# Altium schematic symbol library WR-WTB.SchLib: 242 symbols (part 3 of 5)
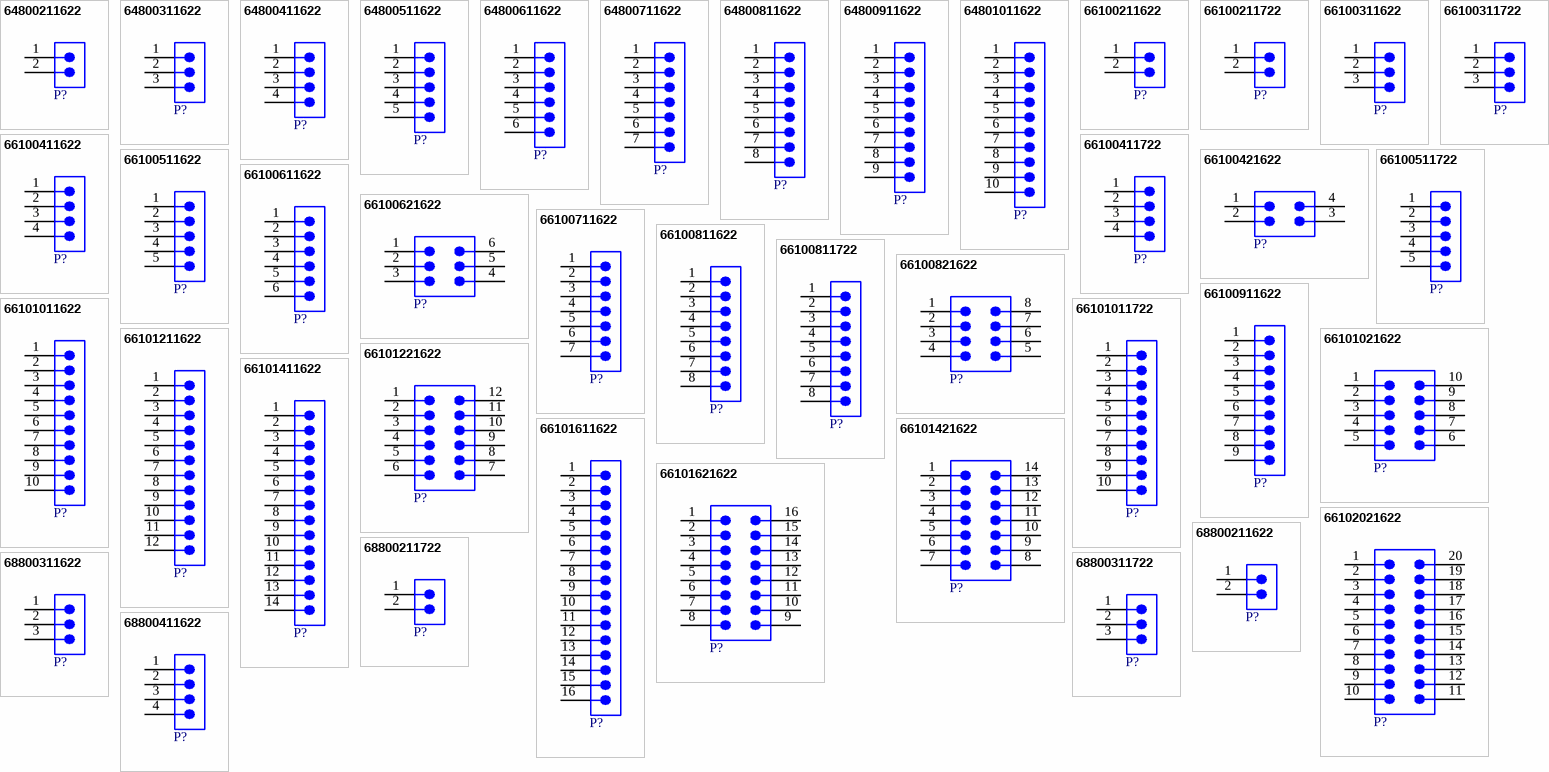
[diagram p8: symbols 64800211622 to 68800411622]

## 66101421622
designator P?  (value not drawn)
WR-WTB THT Male Vertical Shrouded Header, pitch 2.54mm, 14pins; Manufacturer: Wurth Elektronik; Contact Resistance: 20mΩ; Rated Current: 3A; Working Voltage: 50VAC; Withstanding Voltage: 500VAC; Manufacturer Part Number: 66101421622; Category: Wire-to-Board Connectors; Match Code: WR-WTB; ComponentLink1Description: Website Link; ComponentLink1URL: https://www.we-online.com/redexpert/article/66101421622?ad; ComponentLink2Description: Datasheet Link; ComponentLink2URL: https://www.we-online.com/redexpert/spec/66101421622?ad; Mount: Through Hole; Operating Temperature Max: 125°C; Operating Temperature Min: -40°C; Packaging: Carton; Width: 7.6mm; Height: 11.2mm; Gender: Male; Number of Pins: 14; Number of Rows: 2; Orientation: Vertical; Pitch: 2.54mm
footprint 66101421622
pins: 1, 2, 3, 4, 5, 6, 7, 8, 9, 10, 11, 12, 13, 14

## 66101611622
designator P?  (value not drawn)
WR-WTB Male Vertical Shrouded Header, pitch 2.54mm, 16pins; Manufacturer: Wurth Elektronik; Contact Resistance: 20mΩ; Rated Current: 3A; Working Voltage: 50VAC; Withstanding Voltage: 500VAC; Manufacturer Part Number: 66101611622; Category: Wire-to-Board Connectors; Match Code: WR-WTB; ComponentLink1Description: Website Link; ComponentLink1URL: https://www.we-online.com/redexpert/article/66101611622?ad; ComponentLink2Description: Datasheet Link; ComponentLink2URL: https://www.we-online.com/redexpert/spec/66101611622?ad; Mount: Through Hole; Operating Temperature Max: 125°C; Operating Temperature Min: -40°C; Packaging: Box; Width: 5mm; Height: 11.3mm; Gender: Male; Number of Pins: 16; Number of Rows: 1; Orientation: Vertical; Pitch: 2.54mm
footprint 66101611622
pins: 1, 2, 3, 4, 5, 6, 7, 8, 9, 10, 11, 12, 13, 14, 15, 16

## 66101621622
designator P?  (value not drawn)
WR-WTB THT Male Vertical Shrouded Header, pitch 2.54mm, 16pins; Manufacturer: Wurth Elektronik; Contact Resistance: 20mΩ; Rated Current: 3A; Working Voltage: 50VAC; Withstanding Voltage: 500VAC; Manufacturer Part Number: 66101621622; Category: Wire-to-Board Connectors; Match Code: WR-WTB; ComponentLink1Description: Website Link; ComponentLink1URL: https://www.we-online.com/redexpert/article/66101621622?ad; ComponentLink2Description: Datasheet Link; ComponentLink2URL: https://www.we-online.com/redexpert/spec/66101621622?ad; Mount: Through Hole; Operating Temperature Max: 125°C; Operating Temperature Min: -40°C; Packaging: Carton; Width: 7.6mm; Height: 11.2mm; Gender: Male; Number of Pins: 16; Number of Rows: 2; Orientation: Vertical; Pitch: 2.54mm
footprint 66101621622
pins: 1, 2, 3, 4, 5, 6, 7, 8, 9, 10, 11, 12, 13, 14, 15, 16

## 66102021622
designator P?  (value not drawn)
WR-WTB THT Male Vertical Shrouded Header, pitch 2.54mm, 20pins; Manufacturer: Wurth Elektronik; Contact Resistance: 20mΩ; Rated Current: 3A; Working Voltage: 50VAC; Withstanding Voltage: 500VAC; Manufacturer Part Number: 66102021622; Category: Wire-to-Board Connectors; Match Code: WR-WTB; ComponentLink1Description: Website Link; ComponentLink1URL: https://www.we-online.com/redexpert/article/66102021622?ad; ComponentLink2Description: Datasheet Link; ComponentLink2URL: https://www.we-online.com/redexpert/spec/66102021622?ad; Mount: Through Hole; Operating Temperature Max: 125°C; Operating Temperature Min: -40°C; Packaging: Carton; Width: 7.6mm; Height: 11.2mm; Gender: Male; Number of Pins: 20; Number of Rows: 2; Orientation: Vertical; Pitch: 2.54mm
footprint 66102021622
pins: 1, 2, 3, 4, 5, 6, 7, 8, 9, 10, 11, 12, 13, 14, 15, 16, 17, 18, 19, 20

## 68800211622
designator P?  (value not drawn)
WR-WTB “J” Type THT Vertical Male Shrouded Header, pitch 2.5mm, 2pins; Manufacturer: Wurth Elektronik; Contact Resistance: 20mΩ; Rated Current: 3A; Working Voltage: 250VAC; Withstanding Voltage: 800VAC; ComponentLink1Description: Website Link; ComponentLink1URL: https://www.we-online.com/redexpert/article/68800211622?ad; ComponentLink2Description: Datasheet Link; ComponentLink2URL: https://www.we-online.com/redexpert/spec/68800211622?ad; Manufacturer Part Number: 68800211622; Category: Wire-to-Board Connectors; Match Code: WR-WTB; Mount: Through Hole; Operating Temperature Max: 85°C; Operating Temperature Min: -25°C; Packaging: Bag; Length: 7.5mm; Width: 3.8mm; Height: 6mm; Gender: Male; Number of Pins: 2; Number of Rows: 1; Orientation: Vertical; Pitch: 2.5mm
footprint 68800211622
pins: 1, 2

## 68800211722
designator P?  (value not drawn)
WR-WTB “J” Type THT Male Horizontal Shrouded Header, pitch 2.5mm, 2pins; Manufacturer: Wurth Elektronik; Contact Resistance: 20mΩ; Rated Current: 3A; Working Voltage: 250VAC; Withstanding Voltage: 800VAC; ComponentLink1Description: Website Link; ComponentLink1URL: https://www.we-online.com/redexpert/article/68800211722?ad; ComponentLink2Description: Datasheet Link; ComponentLink2URL: https://www.we-online.com/redexpert/spec/68800211722?ad; Manufacturer Part Number: 68800211722; Category: Wire-to-Board Connectors; Match Code: WR-WTB; Mount: Through Hole; Operating Temperature Max: 85°C; Operating Temperature Min: -25°C; Packaging: Bag; Length: 7.5mm; Width: 8.3mm; Height: 4.2mm; Gender: Male; Number of Pins: 2; Number of Rows: 1; Orientation: Horizontal; Pitch: 2.5mm
footprint 68800211722
pins: 1, 2

## 68800311622
designator P?  (value not drawn)
WR-WTB “J” Type THT Vertical Male Shrouded Header, pitch 2.5mm, 3pins; Manufacturer: Wurth Elektronik; Contact Resistance: 20mΩ; Rated Current: 3A; Working Voltage: 250VAC; Withstanding Voltage: 800VAC; ComponentLink1Description: Website Link; ComponentLink1URL: https://www.we-online.com/redexpert/article/68800311622?ad; ComponentLink2Description: Datasheet Link; ComponentLink2URL: https://www.we-online.com/redexpert/spec/68800311622?ad; Manufacturer Part Number: 68800311622; Category: Wire-to-Board Connectors; Match Code: WR-WTB; Mount: Through Hole; Operating Temperature Max: 85°C; Operating Temperature Min: -25°C; Packaging: Bag; Length: 10mm; Width: 3.8mm; Height: 6mm; Gender: Male; Number of Pins: 3; Number of Rows: 1; Orientation: Vertical; Pitch: 2.5mm
footprint 68800311622
pins: 1, 2, 3

## 68800311722
designator P?  (value not drawn)
WR-WTB “J” Type THT Male Horizontal Shrouded Header, pitch 2.5mm, 3pins; Manufacturer: Wurth Elektronik; Contact Resistance: 20mΩ; Rated Current: 3A; Working Voltage: 250VAC; Withstanding Voltage: 800VAC; ComponentLink1Description: Website Link; ComponentLink1URL: https://www.we-online.com/redexpert/article/68800311722?ad; ComponentLink2Description: Datasheet Link; ComponentLink2URL: https://www.we-online.com/redexpert/spec/68800311722?ad; Manufacturer Part Number: 68800311722; Category: Wire-to-Board Connectors; Match Code: WR-WTB; Mount: Through Hole; Operating Temperature Max: 85°C; Operating Temperature Min: -25°C; Packaging: Bag; Length: 10mm; Width: 8.3mm; Height: 4.2mm; Gender: Male; Number of Pins: 3; Number of Rows: 1; Orientation: Horizontal; Pitch: 2.5mm
footprint 68800311722
pins: 1, 2, 3

## 68800411622
designator P?  (value not drawn)
WR-WTB “J” Type THT Vertical Male Shrouded Header, pitch 2.5mm, 4pins; Manufacturer: Wurth Elektronik; Contact Resistance: 20mΩ; Rated Current: 3A; Working Voltage: 250VAC; Withstanding Voltage: 800VAC; ComponentLink1Description: Website Link; ComponentLink1URL: https://www.we-online.com/redexpert/article/68800411622?ad; ComponentLink2Description: Datasheet Link; ComponentLink2URL: https://www.we-online.com/redexpert/spec/68800411622?ad; Manufacturer Part Number: 68800411622; Category: Wire-to-Board Connectors; Match Code: WR-WTB; Mount: Through Hole; Operating Temperature Max: 85°C; Operating Temperature Min: -25°C; Packaging: Bag; Length: 12.5mm; Width: 3.8mm; Height: 6mm; Gender: Male; Number of Pins: 4; Number of Rows: 1; Orientation: Vertical; Pitch: 2.5mm
footprint 68800411622
pins: 1, 2, 3, 4

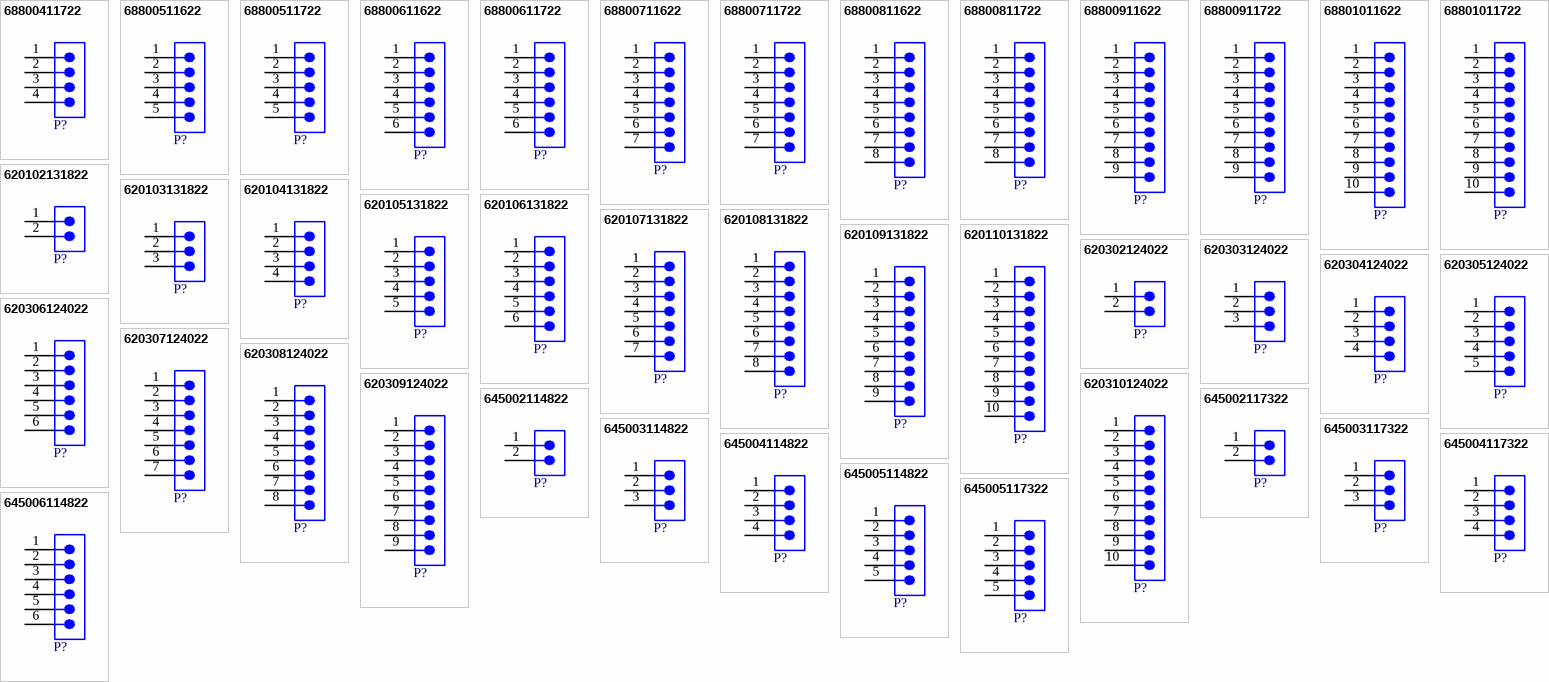
[diagram p3: symbols 68800411722 to 645006114822]

## 68800411722
designator P?  (value not drawn)
WR-WTB “J” Type THT Male Horizontal Shrouded Header, pitch 2.5mm, 4pins; Manufacturer: Wurth Elektronik; Contact Resistance: 20mΩ; Rated Current: 3A; Working Voltage: 250VAC; Withstanding Voltage: 800VAC; ComponentLink1Description: Website Link; ComponentLink1URL: https://www.we-online.com/redexpert/article/68800411722?ad; ComponentLink2Description: Datasheet Link; ComponentLink2URL: https://www.we-online.com/redexpert/spec/68800411722?ad; Manufacturer Part Number: 68800411722; Category: Wire-to-Board Connectors; Match Code: WR-WTB; Mount: Through Hole; Operating Temperature Max: 85°C; Operating Temperature Min: -25°C; Packaging: Bag; Length: 12.5mm; Width: 8.3mm; Height: 4.2mm; Gender: Male; Number of Pins: 4; Number of Rows: 1; Orientation: Horizontal; Pitch: 2.5mm
footprint 68800411722
pins: 1, 2, 3, 4

## 68800511622
designator P?  (value not drawn)
WR-WTB “J” Type THT Vertical Male Shrouded Header, pitch 2.5mm, 5pins; Manufacturer: Wurth Elektronik; Contact Resistance: 20mΩ; Rated Current: 3A; Working Voltage: 250VAC; Withstanding Voltage: 800VAC; ComponentLink1Description: Website Link; ComponentLink1URL: https://www.we-online.com/redexpert/article/68800511622?ad; ComponentLink2Description: Datasheet Link; ComponentLink2URL: https://www.we-online.com/redexpert/spec/68800511622?ad; Manufacturer Part Number: 68800511622; Category: Wire-to-Board Connectors; Match Code: WR-WTB; Mount: Through Hole; Operating Temperature Max: 85°C; Operating Temperature Min: -25°C; Packaging: Bag; Length: 15mm; Width: 3.8mm; Height: 6mm; Gender: Male; Number of Pins: 5; Number of Rows: 1; Orientation: Vertical; Pitch: 2.5mm
footprint 68800511622
pins: 1, 2, 3, 4, 5

## 68800511722
designator P?  (value not drawn)
WR-WTB “J” Type THT Male Horizontal Shrouded Header, pitch 2.5mm, 5pins; Manufacturer: Wurth Elektronik; Contact Resistance: 20mΩ; Rated Current: 3A; Working Voltage: 250VAC; Withstanding Voltage: 800VAC; ComponentLink1Description: Website Link; ComponentLink1URL: https://www.we-online.com/redexpert/article/68800511722?ad; ComponentLink2Description: Datasheet Link; ComponentLink2URL: https://www.we-online.com/redexpert/spec/68800511722?ad; Manufacturer Part Number: 68800511722; Category: Wire-to-Board Connectors; Match Code: WR-WTB; Mount: Through Hole; Operating Temperature Max: 85°C; Operating Temperature Min: -25°C; Packaging: Bag; Length: 15mm; Width: 8.3mm; Height: 4.2mm; Gender: Male; Number of Pins: 5; Number of Rows: 1; Orientation: Horizontal; Pitch: 2.5mm
footprint 68800511722
pins: 1, 2, 3, 4, 5

## 68800611622
designator P?  (value not drawn)
WR-WTB “J” Type THT Vertical Male Shrouded Header, pitch 2.5mm, 6pins; Manufacturer: Wurth Elektronik; Contact Resistance: 20mΩ; Rated Current: 3A; Working Voltage: 250VAC; Withstanding Voltage: 800VAC; ComponentLink1Description: Website Link; ComponentLink1URL: https://www.we-online.com/redexpert/article/68800611622?ad; ComponentLink2Description: Datasheet Link; ComponentLink2URL: https://www.we-online.com/redexpert/spec/68800611622?ad; Manufacturer Part Number: 68800611622; Category: Wire-to-Board Connectors; Match Code: WR-WTB; Mount: Through Hole; Operating Temperature Max: 85°C; Operating Temperature Min: -25°C; Packaging: Bag; Length: 17.5mm; Width: 3.8mm; Height: 6mm; Gender: Male; Number of Pins: 6; Number of Rows: 1; Orientation: Vertical; Pitch: 2.5mm
footprint 68800611622
pins: 1, 2, 3, 4, 5, 6

## 68800611722
designator P?  (value not drawn)
WR-WTB “J” Type THT Male Horizontal Shrouded Header, pitch 2.5mm, 6pins; Manufacturer: Wurth Elektronik; Contact Resistance: 20mΩ; Rated Current: 3A; Working Voltage: 250VAC; Withstanding Voltage: 800VAC; ComponentLink1Description: Website Link; ComponentLink1URL: https://www.we-online.com/redexpert/article/68800611722?ad; ComponentLink2Description: Datasheet Link; ComponentLink2URL: https://www.we-online.com/redexpert/spec/68800611722?ad; Manufacturer Part Number: 68800611722; Category: Wire-to-Board Connectors; Match Code: WR-WTB; Mount: Through Hole; Operating Temperature Max: 85°C; Operating Temperature Min: -25°C; Packaging: Bag; Length: 17.5mm; Width: 8.3mm; Height: 4.2mm; Gender: Male; Number of Pins: 6; Number of Rows: 1; Orientation: Horizontal; Pitch: 2.5mm
footprint 68800611722
pins: 1, 2, 3, 4, 5, 6

## 68800711622
designator P?  (value not drawn)
WR-WTB “J” Type THT Vertical Male Shrouded Header, pitch 2.5mm, 7pins; Manufacturer: Wurth Elektronik; Contact Resistance: 20mΩ; Rated Current: 3A; Working Voltage: 250VAC; Withstanding Voltage: 800VAC; ComponentLink1Description: Website Link; ComponentLink1URL: https://www.we-online.com/redexpert/article/68800711622?ad; ComponentLink2Description: Datasheet Link; ComponentLink2URL: https://www.we-online.com/redexpert/spec/68800711622?ad; Manufacturer Part Number: 68800711622; Category: Wire-to-Board Connectors; Match Code: WR-WTB; Mount: Through Hole; Operating Temperature Max: 85°C; Operating Temperature Min: -25°C; Packaging: Bag; Length: 20mm; Width: 3.8mm; Height: 6mm; Gender: Male; Number of Pins: 7; Number of Rows: 1; Orientation: Vertical; Pitch: 2.5mm
footprint 68800711622
pins: 1, 2, 3, 4, 5, 6, 7

## 68800711722
designator P?  (value not drawn)
WR-WTB “J” Type THT Male Horizontal Shrouded Header, pitch 2.5mm, 7pins; Manufacturer: Wurth Elektronik; Contact Resistance: 20mΩ; Rated Current: 3A; Working Voltage: 250VAC; Withstanding Voltage: 800VAC; ComponentLink1Description: Website Link; ComponentLink1URL: https://www.we-online.com/redexpert/article/68800711722?ad; ComponentLink2Description: Datasheet Link; ComponentLink2URL: https://www.we-online.com/redexpert/spec/68800711722?ad; Manufacturer Part Number: 68800711722; Category: Wire-to-Board Connectors; Match Code: WR-WTB; Mount: Through Hole; Operating Temperature Max: 85°C; Operating Temperature Min: -25°C; Packaging: Bag; Length: 20mm; Width: 8.3mm; Height: 4.2mm; Gender: Male; Number of Pins: 7; Number of Rows: 1; Orientation: Horizontal; Pitch: 2.5mm
footprint 68800711722
pins: 1, 2, 3, 4, 5, 6, 7

## 68800811622
designator P?  (value not drawn)
WR-WTB “J” Type THT Vertical Male Shrouded Header, pitch 2.5mm, 8pins; Manufacturer: Wurth Elektronik; Contact Resistance: 20mΩ; Rated Current: 3A; Working Voltage: 250VAC; Withstanding Voltage: 800VAC; ComponentLink1Description: Website Link; ComponentLink1URL: https://www.we-online.com/redexpert/article/68800811622?ad; ComponentLink2Description: Datasheet Link; ComponentLink2URL: https://www.we-online.com/redexpert/spec/68800811622?ad; Manufacturer Part Number: 68800811622; Category: Wire-to-Board Connectors; Match Code: WR-WTB; Mount: Through Hole; Operating Temperature Max: 85°C; Operating Temperature Min: -25°C; Packaging: Bag; Length: 22.5mm; Width: 3.8mm; Height: 6mm; Gender: Male; Number of Pins: 8; Number of Rows: 1; Orientation: Vertical; Pitch: 2.5mm
footprint 68800811622
pins: 1, 2, 3, 4, 5, 6, 7, 8

## 68800811722
designator P?  (value not drawn)
WR-WTB “J” Type THT Male Horizontal Shrouded Header, pitch 2.5mm, 8pins; Manufacturer: Wurth Elektronik; Contact Resistance: 20mΩ; Rated Current: 3A; Working Voltage: 250VAC; Withstanding Voltage: 800VAC; ComponentLink1Description: Website Link; ComponentLink1URL: https://www.we-online.com/redexpert/article/68800811722?ad; ComponentLink2Description: Datasheet Link; ComponentLink2URL: https://www.we-online.com/redexpert/spec/68800811722?ad; Manufacturer Part Number: 68800811722; Category: Wire-to-Board Connectors; Match Code: WR-WTB; Mount: Through Hole; Operating Temperature Max: 85°C; Operating Temperature Min: -25°C; Packaging: Bag; Length: 22.5mm; Width: 8.3mm; Height: 4.2mm; Gender: Male; Number of Pins: 8; Number of Rows: 1; Orientation: Horizontal; Pitch: 2.5mm
footprint 68800811722
pins: 1, 2, 3, 4, 5, 6, 7, 8

## 68800911622
designator P?  (value not drawn)
WR-WTB “J” Type THT Vertical Male Shrouded Header, pitch 2.5mm, 9pins; Manufacturer: Wurth Elektronik; Contact Resistance: 20mΩ; Rated Current: 3A; Working Voltage: 250VAC; Withstanding Voltage: 800VAC; ComponentLink1Description: Website Link; ComponentLink1URL: https://www.we-online.com/redexpert/article/68800911622?ad; ComponentLink2Description: Datasheet Link; ComponentLink2URL: https://www.we-online.com/redexpert/spec/68800911622?ad; Manufacturer Part Number: 68800911622; Category: Wire-to-Board Connectors; Match Code: WR-WTB; Mount: Through Hole; Operating Temperature Max: 85°C; Operating Temperature Min: -25°C; Packaging: Bag; Length: 25mm; Width: 3.8mm; Height: 6mm; Gender: Male; Number of Pins: 9; Number of Rows: 1; Orientation: Vertical; Pitch: 2.5mm
footprint 68800911622
pins: 1, 2, 3, 4, 5, 6, 7, 8, 9

## 68800911722
designator P?  (value not drawn)
WR-WTB “J” Type THT Male Horizontal Shrouded Header, pitch 2.5mm, 9pins; Manufacturer: Wurth Elektronik; Contact Resistance: 20mΩ; Rated Current: 3A; Working Voltage: 250VAC; Withstanding Voltage: 800VAC; ComponentLink1Description: Website Link; ComponentLink1URL: https://www.we-online.com/redexpert/article/68800911722?ad; ComponentLink2Description: Datasheet Link; ComponentLink2URL: https://www.we-online.com/redexpert/spec/68800911722?ad; Manufacturer Part Number: 68800911722; Category: Wire-to-Board Connectors; Match Code: WR-WTB; Mount: Through Hole; Operating Temperature Max: 85°C; Operating Temperature Min: -25°C; Packaging: Bag; Length: 25mm; Width: 8.3mm; Height: 4.2mm; Gender: Male; Number of Pins: 9; Number of Rows: 1; Orientation: Horizontal; Pitch: 2.5mm
footprint 68800911722
pins: 1, 2, 3, 4, 5, 6, 7, 8, 9

## 68801011622
designator P?  (value not drawn)
WR-WTB “J” Type THT Vertical Male Shrouded Header, pitch 2.5mm, 10pins; Manufacturer: Wurth Elektronik; Contact Resistance: 20mΩ; Rated Current: 3A; Working Voltage: 250VAC; Withstanding Voltage: 800VAC; ComponentLink1Description: Website Link; ComponentLink1URL: https://www.we-online.com/redexpert/article/68801011622?ad; ComponentLink2Description: Datasheet Link; ComponentLink2URL: https://www.we-online.com/redexpert/spec/68801011622?ad; Manufacturer Part Number: 68801011622; Category: Wire-to-Board Connectors; Match Code: WR-WTB; Mount: Through Hole; Operating Temperature Max: 85°C; Operating Temperature Min: -25°C; Packaging: Bag; Length: 27.5mm; Width: 3.8mm; Height: 6mm; Gender: Male; Number of Pins: 10; Number of Rows: 1; Orientation: Vertical; Pitch: 2.5mm
footprint 68801011622
pins: 1, 2, 3, 4, 5, 6, 7, 8, 9, 10

## 68801011722
designator P?  (value not drawn)
WR-WTB “J” Type THT Male Horizontal Shrouded Header, pitch 2.5mm, 10pins; Manufacturer: Wurth Elektronik; Contact Resistance: 20mΩ; Rated Current: 3A; Working Voltage: 250VAC; Withstanding Voltage: 800VAC; ComponentLink1Description: Website Link; ComponentLink1URL: https://www.we-online.com/redexpert/article/68801011722?ad; ComponentLink2Description: Datasheet Link; ComponentLink2URL: https://www.we-online.com/redexpert/spec/68801011722?ad; Manufacturer Part Number: 68801011722; Category: Wire-to-Board Connectors; Match Code: WR-WTB; Mount: Through Hole; Operating Temperature Max: 85°C; Operating Temperature Min: -25°C; Packaging: Bag; Length: 27.5mm; Width: 8.3mm; Height: 4.2mm; Gender: Male; Number of Pins: 10; Number of Rows: 1; Orientation: Horizontal; Pitch: 2.5mm
footprint 68801011722
pins: 1, 2, 3, 4, 5, 6, 7, 8, 9, 10

## 620102131822
designator P?  (value not drawn)
WR-WTB SMT Male Horizontal Shrouded Header, pitch 2mm, 2pins; Manufacturer: Wurth Elektronik; Contact Resistance: 20mΩ; Rated Current: 2A; Working Voltage: 100VAC; Withstanding Voltage: 800VAC; ComponentLink1Description: Website Link; ComponentLink1URL: https://www.we-online.com/redexpert/article/620102131822?ad; ComponentLink2Description: Datasheet Link; ComponentLink2URL: https://www.we-online.com/redexpert/spec/620102131822?ad; Manufacturer Part Number: 620102131822; Category: Wire-to-Board Connectors; Match Code: WR-WTB; Mount: Surface Mount; Operating Temperature Max: 85°C; Operating Temperature Min: -25°C; Packaging: Tape and Reel; Length: 8mm; Width: 8.6mm; Height: 5.5mm; Gender: Male; Number of Pins: 2; Number of Rows: 1; Orientation: Horizontal; Pitch: 2mm
footprint 620102131822
pins: 1, 2

## 620103131822
designator P?  (value not drawn)
WR-WTB SMT Male Horizontal Shrouded Header, pitch 2mm, 3pins; Manufacturer: Wurth Elektronik; Contact Resistance: 20mΩ; Rated Current: 2A; Working Voltage: 100VAC; Withstanding Voltage: 800VAC; ComponentLink1Description: Website Link; ComponentLink1URL: https://www.we-online.com/redexpert/article/620103131822?ad; ComponentLink2Description: Datasheet Link; ComponentLink2URL: https://www.we-online.com/redexpert/spec/620103131822?ad; Manufacturer Part Number: 620103131822; Category: Wire-to-Board Connectors; Match Code: WR-WTB; Mount: Surface Mount; Operating Temperature Max: 85°C; Operating Temperature Min: -25°C; Packaging: Tape and Reel; Length: 10mm; Width: 8.6mm; Height: 5.5mm; Gender: Male; Number of Pins: 3; Number of Rows: 1; Orientation: Horizontal; Pitch: 2mm
footprint 620103131822
pins: 1, 2, 3

## 620104131822
designator P?  (value not drawn)
WR-WTB SMT Male Horizontal Shrouded Header, pitch 2mm, 4pins; Manufacturer: Wurth Elektronik; Contact Resistance: 20mΩ; Rated Current: 2A; Working Voltage: 100VAC; Withstanding Voltage: 800VAC; ComponentLink1Description: Website Link; ComponentLink1URL: https://www.we-online.com/redexpert/article/620104131822?ad; ComponentLink2Description: Datasheet Link; ComponentLink2URL: https://www.we-online.com/redexpert/spec/620104131822?ad; Manufacturer Part Number: 620104131822; Category: Wire-to-Board Connectors; Match Code: WR-WTB; Mount: Surface Mount; Operating Temperature Max: 85°C; Operating Temperature Min: -25°C; Packaging: Tape and Reel; Length: 12mm; Width: 8.6mm; Height: 5.5mm; Gender: Male; Number of Pins: 4; Number of Rows: 1; Orientation: Horizontal; Pitch: 2mm
footprint 620104131822
pins: 1, 2, 3, 4

## 620105131822
designator P?  (value not drawn)
WR-WTB SMT Male Horizontal Shrouded Header, pitch 2mm, 5pins; Manufacturer: Wurth Elektronik; Contact Resistance: 20mΩ; Rated Current: 2A; Working Voltage: 100VAC; Withstanding Voltage: 800VAC; ComponentLink1Description: Website Link; ComponentLink1URL: https://www.we-online.com/redexpert/article/620105131822?ad; ComponentLink2Description: Datasheet Link; ComponentLink2URL: https://www.we-online.com/redexpert/spec/620105131822?ad; Manufacturer Part Number: 620105131822; Category: Wire-to-Board Connectors; Match Code: WR-WTB; Mount: Surface Mount; Operating Temperature Max: 85°C; Operating Temperature Min: -25°C; Packaging: Tape and Reel; Length: 14mm; Width: 8.6mm; Height: 5.5mm; Gender: Male; Number of Pins: 5; Number of Rows: 1; Orientation: Horizontal; Pitch: 2mm
footprint 620105131822
pins: 1, 2, 3, 4, 5

## 620106131822
designator P?  (value not drawn)
WR-WTB SMT Male Horizontal Shrouded Header, pitch 2mm, 6pins; Manufacturer: Wurth Elektronik; Contact Resistance: 20mΩ; Rated Current: 2A; Working Voltage: 100VAC; Withstanding Voltage: 800VAC; ComponentLink1Description: Website Link; ComponentLink1URL: https://www.we-online.com/redexpert/article/620106131822?ad; ComponentLink2Description: Datasheet Link; ComponentLink2URL: https://www.we-online.com/redexpert/spec/620106131822?ad; Manufacturer Part Number: 620106131822; Category: Wire-to-Board Connectors; Match Code: WR-WTB; Mount: Surface Mount; Operating Temperature Max: 85°C; Operating Temperature Min: -25°C; Packaging: Tape and Reel; Length: 16mm; Width: 8.6mm; Height: 5.5mm; Gender: Male; Number of Pins: 6; Number of Rows: 1; Orientation: Horizontal; Pitch: 2mm
footprint 620106131822
pins: 1, 2, 3, 4, 5, 6

## 620107131822
designator P?  (value not drawn)
WR-WTB SMT Male Horizontal Shrouded Header, pitch 2mm, 7pins; Manufacturer: Wurth Elektronik; Contact Resistance: 20mΩ; Rated Current: 2A; Working Voltage: 100VAC; Withstanding Voltage: 800VAC; ComponentLink1Description: Website Link; ComponentLink1URL: https://www.we-online.com/redexpert/article/620107131822?ad; ComponentLink2Description: Datasheet Link; ComponentLink2URL: https://www.we-online.com/redexpert/spec/620107131822?ad; Manufacturer Part Number: 620107131822; Category: Wire-to-Board Connectors; Match Code: WR-WTB; Mount: Surface Mount; Operating Temperature Max: 85°C; Operating Temperature Min: -25°C; Packaging: Tape and Reel; Length: 18mm; Width: 8.6mm; Height: 5.5mm; Gender: Male; Number of Pins: 7; Number of Rows: 1; Orientation: Horizontal; Pitch: 2mm
footprint 620107131822
pins: 1, 2, 3, 4, 5, 6, 7

## 620108131822
designator P?  (value not drawn)
WR-WTB SMT Male Horizontal Shrouded Header, pitch 2mm, 8pins; Manufacturer: Wurth Elektronik; Contact Resistance: 20mΩ; Rated Current: 2A; Working Voltage: 100VAC; Withstanding Voltage: 800VAC; ComponentLink1Description: Website Link; ComponentLink1URL: https://www.we-online.com/redexpert/article/620108131822?ad; ComponentLink2Description: Datasheet Link; ComponentLink2URL: https://www.we-online.com/redexpert/spec/620108131822?ad; Manufacturer Part Number: 620108131822; Category: Wire-to-Board Connectors; Match Code: WR-WTB; Mount: Surface Mount; Operating Temperature Max: 85°C; Operating Temperature Min: -25°C; Packaging: Tape and Reel; Length: 20mm; Width: 8.6mm; Height: 5.5mm; Gender: Male; Number of Pins: 8; Number of Rows: 1; Orientation: Horizontal; Pitch: 2mm
footprint 620108131822
pins: 1, 2, 3, 4, 5, 6, 7, 8

## 620109131822
designator P?  (value not drawn)
WR-WTB SMT Male Horizontal Shrouded Header, pitch 2mm, 9pins; Manufacturer: Wurth Elektronik; Contact Resistance: 20mΩ; Rated Current: 2A; Working Voltage: 100VAC; Withstanding Voltage: 800VAC; ComponentLink1Description: Website Link; ComponentLink1URL: https://www.we-online.com/redexpert/article/620109131822?ad; ComponentLink2Description: Datasheet Link; ComponentLink2URL: https://www.we-online.com/redexpert/spec/620109131822?ad; Manufacturer Part Number: 620109131822; Category: Wire-to-Board Connectors; Match Code: WR-WTB; Mount: Surface Mount; Operating Temperature Max: 85°C; Operating Temperature Min: -25°C; Packaging: Tape and Reel; Length: 22mm; Width: 8.6mm; Height: 5.5mm; Gender: Male; Number of Pins: 9; Number of Rows: 1; Orientation: Horizontal; Pitch: 2mm
footprint 620109131822
pins: 1, 2, 3, 4, 5, 6, 7, 8, 9

## 620110131822
designator P?  (value not drawn)
WR-WTB SMT Male Horizontal Shrouded Header, pitch 2mm, 10pins; Manufacturer: Wurth Elektronik; Contact Resistance: 20mΩ; Rated Current: 2A; Working Voltage: 100VAC; Withstanding Voltage: 800VAC; ComponentLink1Description: Website Link; ComponentLink1URL: https://www.we-online.com/redexpert/article/620110131822?ad; ComponentLink2Description: Datasheet Link; ComponentLink2URL: https://www.we-online.com/redexpert/spec/620110131822?ad; Manufacturer Part Number: 620110131822; Category: Wire-to-Board Connectors; Match Code: WR-WTB; Mount: Surface Mount; Operating Temperature Max: 85°C; Operating Temperature Min: -25°C; Packaging: Tape and Reel; Length: 24mm; Width: 8.6mm; Height: 5.5mm; Gender: Male; Number of Pins: 10; Number of Rows: 1; Orientation: Horizontal; Pitch: 2mm
footprint 620110131822
pins: 1, 2, 3, 4, 5, 6, 7, 8, 9, 10

## 620302124022
designator P?  (value not drawn)
WR-WTB SMT Male Vertical Shrouded Header, pitch 2mm, 2pins; Manufacturer: Wurth Elektronik; Contact Resistance: 20mΩ; Rated Current: 2A; Working Voltage: 100VAC; Withstanding Voltage: 800VAC; ComponentLink1Description: Website Link; ComponentLink1URL: https://www.we-online.com/redexpert/article/620302124022?ad; ComponentLink2Description: Datasheet Link; ComponentLink2URL: https://www.we-online.com/redexpert/spec/620302124022?ad; Manufacturer Part Number: 620302124022; Category: Wire-to-Board Connectors; Match Code: WR-WTB; Mount: Surface Mount; Operating Temperature Max: 85°C; Operating Temperature Min: -25°C; Packaging: Tape and Reel; Length: 8mm; Width: 7mm; Height: 6.68mm; Gender: Male; Number of Pins: 2; Number of Rows: 1; Orientation: Vertical; Pitch: 2mm
footprint 620302124022
pins: 1, 2

## 620303124022
designator P?  (value not drawn)
WR-WTB SMT Male Vertical Shrouded Header, pitch 2mm, 3pins; Manufacturer: Wurth Elektronik; Contact Resistance: 20mΩ; Rated Current: 2A; Working Voltage: 100VAC; Withstanding Voltage: 800VAC; ComponentLink1Description: Website Link; ComponentLink1URL: https://www.we-online.com/redexpert/article/620303124022?ad; ComponentLink2Description: Datasheet Link; ComponentLink2URL: https://www.we-online.com/redexpert/spec/620303124022?ad; Manufacturer Part Number: 620303124022; Category: Wire-to-Board Connectors; Match Code: WR-WTB; Mount: Surface Mount; Operating Temperature Max: 85°C; Operating Temperature Min: -25°C; Packaging: Tape and Reel; Length: 10mm; Width: 7mm; Height: 6.68mm; Gender: Male; Number of Pins: 3; Number of Rows: 1; Orientation: Vertical; Pitch: 2mm
footprint 620303124022
pins: 1, 2, 3

## 620304124022
designator P?  (value not drawn)
WR-WTB SMT Male Vertical Shrouded Header, pitch 2mm, 4pins; Manufacturer: Wurth Elektronik; Contact Resistance: 20mΩ; Rated Current: 2A; Working Voltage: 100VAC; Withstanding Voltage: 800VAC; ComponentLink1Description: Website Link; ComponentLink1URL: https://www.we-online.com/redexpert/article/620304124022?ad; ComponentLink2Description: Datasheet Link; ComponentLink2URL: https://www.we-online.com/redexpert/spec/620304124022?ad; Manufacturer Part Number: 620304124022; Category: Wire-to-Board Connectors; Match Code: WR-WTB; Mount: Surface Mount; Operating Temperature Max: 85°C; Operating Temperature Min: -25°C; Packaging: Tape and Reel; Length: 12mm; Width: 7mm; Height: 6.68mm; Gender: Male; Number of Pins: 4; Number of Rows: 1; Orientation: Vertical; Pitch: 2mm
footprint 620304124022
pins: 1, 2, 3, 4

## 620305124022
designator P?  (value not drawn)
WR-WTB SMT Male Vertical Shrouded Header, pitch 2mm, 5pins; Manufacturer: Wurth Elektronik; Contact Resistance: 20mΩ; Rated Current: 2A; Working Voltage: 100VAC; Withstanding Voltage: 800VAC; ComponentLink1Description: Website Link; ComponentLink1URL: https://www.we-online.com/redexpert/article/620305124022?ad; ComponentLink2Description: Datasheet Link; ComponentLink2URL: https://www.we-online.com/redexpert/spec/620305124022?ad; Manufacturer Part Number: 620305124022; Category: Wire-to-Board Connectors; Match Code: WR-WTB; Mount: Surface Mount; Operating Temperature Max: 85°C; Operating Temperature Min: -25°C; Packaging: Tape and Reel; Length: 14mm; Width: 7mm; Height: 6.68mm; Gender: Male; Number of Pins: 5; Number of Rows: 1; Orientation: Vertical; Pitch: 2mm
footprint 620305124022
pins: 1, 2, 3, 4, 5

## 620306124022
designator P?  (value not drawn)
WR-WTB SMT Male Vertical Shrouded Header, pitch 2mm, 6pins; Manufacturer: Wurth Elektronik; Contact Resistance: 20mΩ; Rated Current: 2A; Working Voltage: 100VAC; Withstanding Voltage: 800VAC; ComponentLink1Description: Website Link; ComponentLink1URL: https://www.we-online.com/redexpert/article/620306124022?ad; ComponentLink2Description: Datasheet Link; ComponentLink2URL: https://www.we-online.com/redexpert/spec/620306124022?ad; Manufacturer Part Number: 620306124022; Category: Wire-to-Board Connectors; Match Code: WR-WTB; Mount: Surface Mount; Operating Temperature Max: 85°C; Operating Temperature Min: -25°C; Packaging: Tape and Reel; Length: 16mm; Width: 7mm; Height: 6.68mm; Gender: Male; Number of Pins: 6; Number of Rows: 1; Orientation: Vertical; Pitch: 2mm
footprint 620306124022
pins: 1, 2, 3, 4, 5, 6

## 620307124022
designator P?  (value not drawn)
WR-WTB SMT Male Vertical Shrouded Header, pitch 2mm, 7pins; Manufacturer: Wurth Elektronik; Contact Resistance: 20mΩ; Rated Current: 2A; Working Voltage: 100VAC; Withstanding Voltage: 800VAC; ComponentLink1Description: Website Link; ComponentLink1URL: https://www.we-online.com/redexpert/article/620307124022?ad; ComponentLink2Description: Datasheet Link; ComponentLink2URL: https://www.we-online.com/redexpert/spec/620307124022?ad; Manufacturer Part Number: 620307124022; Category: Wire-to-Board Connectors; Match Code: WR-WTB; Mount: Surface Mount; Operating Temperature Max: 85°C; Operating Temperature Min: -25°C; Packaging: Tape and Reel; Length: 18mm; Width: 7mm; Height: 6.68mm; Gender: Male; Number of Pins: 7; Number of Rows: 1; Orientation: Vertical; Pitch: 2mm
footprint 620307124022
pins: 1, 2, 3, 4, 5, 6, 7

## 620308124022
designator P?  (value not drawn)
WR-WTB SMT Male Vertical Shrouded Header, pitch 2mm, 8pins; Manufacturer: Wurth Elektronik; Contact Resistance: 20mΩ; Rated Current: 2A; Working Voltage: 100VAC; Withstanding Voltage: 800VAC; ComponentLink1Description: Website Link; ComponentLink1URL: https://www.we-online.com/redexpert/article/620308124022?ad; ComponentLink2Description: Datasheet Link; ComponentLink2URL: https://www.we-online.com/redexpert/spec/620308124022?ad; Manufacturer Part Number: 620308124022; Category: Wire-to-Board Connectors; Match Code: WR-WTB; Mount: Surface Mount; Operating Temperature Max: 85°C; Operating Temperature Min: -25°C; Packaging: Tape and Reel; Length: 20mm; Width: 7mm; Height: 6.68mm; Gender: Male; Number of Pins: 8; Number of Rows: 1; Orientation: Vertical; Pitch: 2mm
footprint 620308124022
pins: 1, 2, 3, 4, 5, 6, 7, 8

## 620309124022
designator P?  (value not drawn)
WR-WTB SMT Male Vertical Shrouded Header, pitch 2mm, 9pins; Manufacturer: Wurth Elektronik; Contact Resistance: 20mΩ; Rated Current: 2A; Working Voltage: 100VAC; Withstanding Voltage: 800VAC; ComponentLink1Description: Website Link; ComponentLink1URL: https://www.we-online.com/redexpert/article/620309124022?ad; ComponentLink2Description: Datasheet Link; ComponentLink2URL: https://www.we-online.com/redexpert/spec/620309124022?ad; Manufacturer Part Number: 620309124022; Category: Wire-to-Board Connectors; Match Code: WR-WTB; Mount: Surface Mount; Operating Temperature Max: 85°C; Operating Temperature Min: -25°C; Packaging: Tape and Reel; Length: 22mm; Width: 7mm; Height: 6.68mm; Gender: Male; Number of Pins: 9; Number of Rows: 1; Orientation: Vertical; Pitch: 2mm
footprint 620309124022
pins: 1, 2, 3, 4, 5, 6, 7, 8, 9

## 620310124022
designator P?  (value not drawn)
WR-WTB SMT Male Vertical Shrouded Header, pitch 2mm, 10pins; Manufacturer: Wurth Elektronik; Contact Resistance: 20mΩ; Rated Current: 2A; Working Voltage: 100VAC; Withstanding Voltage: 800VAC; ComponentLink1Description: Website Link; ComponentLink1URL: https://www.we-online.com/redexpert/article/620310124022?ad; ComponentLink2Description: Datasheet Link; ComponentLink2URL: https://www.we-online.com/redexpert/spec/620310124022?ad; Manufacturer Part Number: 620310124022; Category: Wire-to-Board Connectors; Match Code: WR-WTB; Mount: Surface Mount; Operating Temperature Max: 85°C; Operating Temperature Min: -25°C; Packaging: Tape and Reel; Length: 24mm; Width: 7mm; Height: 6.68mm; Gender: Male; Number of Pins: 10; Number of Rows: 1; Orientation: Vertical; Pitch: 2mm
footprint 620310124022
pins: 1, 2, 3, 4, 5, 6, 7, 8, 9, 10

## 645002114822
designator P?  (value not drawn)
WR-WTB THT Male Vertical Locking Header, pitch 3.96mm, 2pins; Manufacturer: Wurth Elektronik; Contact Resistance: 20mΩ; Rated Current: 7A; Working Voltage: 250VAC; Withstanding Voltage: 1500VAC; ComponentLink1Description: Website Link; ComponentLink1URL: https://www.we-online.com/redexpert/article/645002114822?ad; ComponentLink2Description: Datasheet Link; ComponentLink2URL: https://www.we-online.com/redexpert/spec/645002114822?ad; Manufacturer Part Number: 645002114822; Category: Wire-to-Board Connectors; Match Code: WR-WTB; Mount: Through Hole; Operating Temperature Max: 105°C; Operating Temperature Min: -40°C; Packaging: Bag; Length: 7.92mm; Width: 10.75mm; Height: 10.65mm; Gender: Male; Number of Pins: 2; Number of Rows: 1; Orientation: Vertical; Pitch: 3.96mm
footprint 645002114822
pins: 1, 2

## 645002117322
designator P?  (value not drawn)
WR-WTB THT Male Right Angled Locking Header, pitch 3.96mm, 2pins; Manufacturer: Wurth Elektronik; Contact Resistance: 20mΩ; Rated Current: 7A; Working Voltage: 250VAC; Withstanding Voltage: 1500VAC; ComponentLink1Description: Website Link; ComponentLink1URL: https://www.we-online.com/redexpert/article/645002117322?ad; ComponentLink2Description: Datasheet Link; ComponentLink2URL: https://www.we-online.com/redexpert/spec/645002117322?ad; Manufacturer Part Number: 645002117322; Category: Wire-to-Board Connectors; Match Code: WR-WTB; Mount: Through Hole; Operating Temperature Max: 105°C; Operating Temperature Min: -40°C; Packaging: Bag; Length: 7.92mm; Width: 19.4mm; Height: 10.2mm; Gender: Male; Number of Pins: 2; Number of Rows: 1; Orientation: Right Angled; Pitch: 3.96mm
footprint 645002117322
pins: 1, 2

## 645003114822
designator P?  (value not drawn)
WR-WTB THT Male Vertical Locking Header, pitch 3.96mm, 3pins; Manufacturer: Wurth Elektronik; Contact Resistance: 20mΩ; Rated Current: 7A; Working Voltage: 250VAC; Withstanding Voltage: 1500VAC; ComponentLink1Description: Website Link; ComponentLink1URL: https://www.we-online.com/redexpert/article/645003114822?ad; ComponentLink2Description: Datasheet Link; ComponentLink2URL: https://www.we-online.com/redexpert/spec/645003114822?ad; Manufacturer Part Number: 645003114822; Category: Wire-to-Board Connectors; Match Code: WR-WTB; Mount: Through Hole; Operating Temperature Max: 105°C; Operating Temperature Min: -40°C; Packaging: Bag; Length: 11.88mm; Width: 10.75mm; Height: 10.65mm; Gender: Male; Number of Pins: 3; Number of Rows: 1; Orientation: Vertical; Pitch: 3.96mm
footprint 645003114822
pins: 1, 2, 3

## 645003117322
designator P?  (value not drawn)
WR-WTB THT Male Right Angled Locking Header, pitch 3.96mm, 3pins; Manufacturer: Wurth Elektronik; Contact Resistance: 20mΩ; Rated Current: 7A; Working Voltage: 250VAC; Withstanding Voltage: 1500VAC; ComponentLink1Description: Website Link; ComponentLink1URL: https://www.we-online.com/redexpert/article/645003117322?ad; ComponentLink2Description: Datasheet Link; ComponentLink2URL: https://www.we-online.com/redexpert/spec/645003117322?ad; Manufacturer Part Number: 645003117322; Category: Wire-to-Board Connectors; Match Code: WR-WTB; Mount: Through Hole; Operating Temperature Max: 105°C; Operating Temperature Min: -40°C; Packaging: Bag; Length: 11.88mm; Width: 19.4mm; Height: 10.2mm; Gender: Male; Number of Pins: 3; Number of Rows: 1; Orientation: Right Angled; Pitch: 3.96mm
footprint 645003117322
pins: 1, 2, 3

## 645004114822
designator P?  (value not drawn)
WR-WTB THT Male Vertical Locking Header, pitch 3.96mm, 4pins; Manufacturer: Wurth Elektronik; Contact Resistance: 20mΩ; Rated Current: 7A; Working Voltage: 250VAC; Withstanding Voltage: 1500VAC; ComponentLink1Description: Website Link; ComponentLink1URL: https://www.we-online.com/redexpert/article/645004114822?ad; ComponentLink2Description: Datasheet Link; ComponentLink2URL: https://www.we-online.com/redexpert/spec/645004114822?ad; Manufacturer Part Number: 645004114822; Category: Wire-to-Board Connectors; Match Code: WR-WTB; Mount: Through Hole; Operating Temperature Max: 105°C; Operating Temperature Min: -40°C; Packaging: Bag; Length: 15.84mm; Width: 10.75mm; Height: 10.65mm; Gender: Male; Number of Pins: 4; Number of Rows: 1; Orientation: Vertical; Pitch: 3.96mm
footprint 645004114822
pins: 1, 2, 3, 4

## 645004117322
designator P?  (value not drawn)
WR-WTB THT Male Right Angled Locking Header, pitch 3.96mm, 4pins; Manufacturer: Wurth Elektronik; Contact Resistance: 20mΩ; Rated Current: 7A; Working Voltage: 250VAC; Withstanding Voltage: 1500VAC; ComponentLink1Description: Website Link; ComponentLink1URL: https://www.we-online.com/redexpert/article/645004117322?ad; ComponentLink2Description: Datasheet Link; ComponentLink2URL: https://www.we-online.com/redexpert/spec/645004117322?ad; Manufacturer Part Number: 645004117322; Category: Wire-to-Board Connectors; Match Code: WR-WTB; Mount: Through Hole; Operating Temperature Max: 105°C; Operating Temperature Min: -40°C; Packaging: Bag; Length: 15.84mm; Width: 19.4mm; Height: 10.2mm; Gender: Male; Number of Pins: 4; Number of Rows: 1; Orientation: Right Angled; Pitch: 3.96mm
footprint 645004117322
pins: 1, 2, 3, 4

## 645005114822
designator P?  (value not drawn)
WR-WTB THT Male Vertical Locking Header, pitch 3.96mm, 5pins; Manufacturer: Wurth Elektronik; Contact Resistance: 20mΩ; Rated Current: 7A; Working Voltage: 250VAC; Withstanding Voltage: 1500VAC; ComponentLink1Description: Website Link; ComponentLink1URL: https://www.we-online.com/redexpert/article/645005114822?ad; ComponentLink2Description: Datasheet Link; ComponentLink2URL: https://www.we-online.com/redexpert/spec/645005114822?ad; Manufacturer Part Number: 645005114822; Category: Wire-to-Board Connectors; Match Code: WR-WTB; Mount: Through Hole; Operating Temperature Max: 105°C; Operating Temperature Min: -40°C; Packaging: Bag; Length: 19.8mm; Width: 10.75mm; Height: 10.65mm; Gender: Male; Number of Pins: 5; Number of Rows: 1; Orientation: Vertical; Pitch: 3.96mm
footprint 645005114822
pins: 1, 2, 3, 4, 5

## 645005117322
designator P?  (value not drawn)
WR-WTB THT Male Right Angled Locking Header, pitch 3.96mm, 5pins; Manufacturer: Wurth Elektronik; Contact Resistance: 20mΩ; Rated Current: 7A; Working Voltage: 250VAC; Withstanding Voltage: 1500VAC; ComponentLink1Description: Website Link; ComponentLink1URL: https://www.we-online.com/redexpert/article/645005117322?ad; ComponentLink2Description: Datasheet Link; ComponentLink2URL: https://www.we-online.com/redexpert/spec/645005117322?ad; Manufacturer Part Number: 645005117322; Category: Wire-to-Board Connectors; Match Code: WR-WTB; Mount: Through Hole; Operating Temperature Max: 105°C; Operating Temperature Min: -40°C; Packaging: Bag; Length: 19.8mm; Width: 19.4mm; Height: 10.2mm; Gender: Male; Number of Pins: 5; Number of Rows: 1; Orientation: Right Angled; Pitch: 3.96mm
footprint 645005117322
pins: 1, 2, 3, 4, 5

## 645006114822
designator P?  (value not drawn)
WR-WTB THT Male Vertical Locking Header, pitch 3.96mm, 6pins; Manufacturer: Wurth Elektronik; Contact Resistance: 20mΩ; Rated Current: 7A; Working Voltage: 250VAC; Withstanding Voltage: 1500VAC; ComponentLink1Description: Website Link; ComponentLink1URL: https://www.we-online.com/redexpert/article/645006114822?ad; ComponentLink2Description: Datasheet Link; ComponentLink2URL: https://www.we-online.com/redexpert/spec/645006114822?ad; Manufacturer Part Number: 645006114822; Category: Wire-to-Board Connectors; Match Code: WR-WTB; Mount: Through Hole; Operating Temperature Max: 105°C; Operating Temperature Min: -40°C; Packaging: Bag; Length: 23.76mm; Width: 10.75mm; Height: 10.65mm; Gender: Male; Number of Pins: 6; Number of Rows: 1; Orientation: Vertical; Pitch: 3.96mm
footprint 645006114822
pins: 1, 2, 3, 4, 5, 6

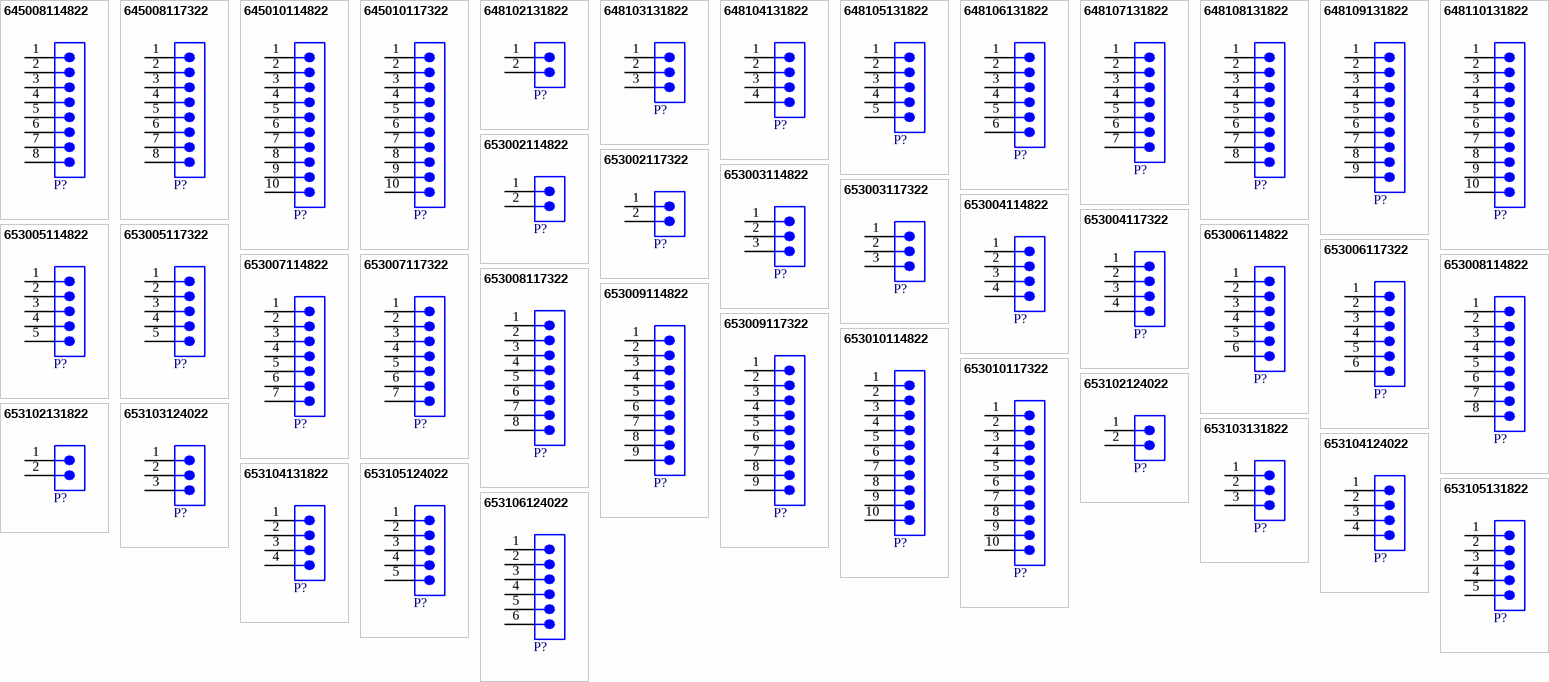
[diagram p4: symbols 645008114822 to 653106124022]

## 645008114822
designator P?  (value not drawn)
WR-WTB THT Male Vertical Locking Header, pitch 3.96mm, 8pins; Manufacturer: Wurth Elektronik; Contact Resistance: 20mΩ; Rated Current: 7A; Working Voltage: 250VAC; Withstanding Voltage: 1500VAC; ComponentLink1Description: Website Link; ComponentLink1URL: https://www.we-online.com/redexpert/article/645008114822?ad; ComponentLink2Description: Datasheet Link; ComponentLink2URL: https://www.we-online.com/redexpert/spec/645008114822?ad; Manufacturer Part Number: 645008114822; Category: Wire-to-Board Connectors; Match Code: WR-WTB; Mount: Through Hole; Operating Temperature Max: 105°C; Operating Temperature Min: -40°C; Packaging: Bag; Length: 31.68mm; Width: 10.75mm; Height: 10.65mm; Gender: Male; Number of Pins: 8; Number of Rows: 1; Orientation: Vertical; Pitch: 3.96mm
footprint 645008114822
pins: 1, 2, 3, 4, 5, 6, 7, 8

## 645008117322
designator P?  (value not drawn)
WR-WTB THT Male Right Angled Locking Header, pitch 3.96mm, 8pins; Manufacturer: Wurth Elektronik; Contact Resistance: 20mΩ; Rated Current: 7A; Working Voltage: 250VAC; Withstanding Voltage: 1500VAC; ComponentLink1Description: Website Link; ComponentLink1URL: https://www.we-online.com/redexpert/article/645008117322?ad; ComponentLink2Description: Datasheet Link; ComponentLink2URL: https://www.we-online.com/redexpert/spec/645008117322?ad; Manufacturer Part Number: 645008117322; Category: Wire-to-Board Connectors; Match Code: WR-WTB; Mount: Through Hole; Operating Temperature Max: 105°C; Operating Temperature Min: -40°C; Packaging: Bag; Length: 31.68mm; Width: 19.4mm; Height: 10.2mm; Gender: Male; Number of Pins: 8; Number of Rows: 1; Orientation: Right Angled; Pitch: 3.96mm
footprint 645008117322
pins: 1, 2, 3, 4, 5, 6, 7, 8

## 645010114822
designator P?  (value not drawn)
WR-WTB THT Male Vertical Locking Header, pitch 3.96mm, 10pins; Manufacturer: Wurth Elektronik; Contact Resistance: 20mΩ; Rated Current: 7A; Working Voltage: 250VAC; Withstanding Voltage: 1500VAC; ComponentLink1Description: Website Link; ComponentLink1URL: https://www.we-online.com/redexpert/article/645010114822?ad; ComponentLink2Description: Datasheet Link; ComponentLink2URL: https://www.we-online.com/redexpert/spec/645010114822?ad; Manufacturer Part Number: 645010114822; Category: Wire-to-Board Connectors; Match Code: WR-WTB; Mount: Through Hole; Operating Temperature Max: 105°C; Operating Temperature Min: -40°C; Packaging: Bag; Length: 39.6mm; Width: 10.75mm; Height: 10.65mm; Gender: Male; Number of Pins: 10; Number of Rows: 1; Orientation: Vertical; Pitch: 3.96mm
footprint 645010114822
pins: 1, 2, 3, 4, 5, 6, 7, 8, 9, 10

## 645010117322
designator P?  (value not drawn)
WR-WTB THT Male Right Angled Locking Header, pitch 3.96mm, 10pins; Manufacturer: Wurth Elektronik; Contact Resistance: 20mΩ; Rated Current: 7A; Working Voltage: 250VAC; Withstanding Voltage: 1500VAC; ComponentLink1Description: Website Link; ComponentLink1URL: https://www.we-online.com/redexpert/article/645010117322?ad; ComponentLink2Description: Datasheet Link; ComponentLink2URL: https://www.we-online.com/redexpert/spec/645010117322?ad; Manufacturer Part Number: 645010117322; Category: Wire-to-Board Connectors; Match Code: WR-WTB; Mount: Through Hole; Operating Temperature Max: 105°C; Operating Temperature Min: -40°C; Packaging: Bag; Length: 39.6mm; Width: 19.4mm; Height: 10.2mm; Gender: Male; Number of Pins: 10; Number of Rows: 1; Orientation: Right Angled; Pitch: 3.96mm
footprint 645010117322
pins: 1, 2, 3, 4, 5, 6, 7, 8, 9, 10

## 648102131822
designator P?  (value not drawn)
WR-WTB SMT Male Horizontal Shrouded Header, pitch 1.5mm, 2pins; Manufacturer: Wurth Elektronik; Contact Resistance: 20mΩ; Rated Current: 1A; Working Voltage: 50VAC; Withstanding Voltage: 500VAC; ComponentLink1Description: Website Link; ComponentLink1URL: https://www.we-online.com/redexpert/article/648102131822?ad; ComponentLink2Description: Datasheet Link; ComponentLink2URL: https://www.we-online.com/redexpert/spec/648102131822?ad; Manufacturer Part Number: 648102131822; Category: Wire-to-Board Connectors; Match Code: WR-WTB; Mount: Surface Mount; Operating Temperature Max: 85°C; Operating Temperature Min: -25°C; Packaging: Tape and Reel; Length: 6mm; Width: 6.47mm; Height: 3.7mm; Gender: Male; Number of Pins: 2; Number of Rows: 1; Orientation: Horizontal; Pitch: 1.5mm
footprint 648102131822
pins: 1, 2

## 648103131822
designator P?  (value not drawn)
WR-WTB SMT Male Horizontal Shrouded Header, pitch 1.5mm, 3pins; Manufacturer: Wurth Elektronik; Contact Resistance: 20mΩ; Rated Current: 1A; Working Voltage: 50VAC; Withstanding Voltage: 500VAC; ComponentLink1Description: Website Link; ComponentLink1URL: https://www.we-online.com/redexpert/article/648103131822?ad; ComponentLink2Description: Datasheet Link; ComponentLink2URL: https://www.we-online.com/redexpert/spec/648103131822?ad; Manufacturer Part Number: 648103131822; Category: Wire-to-Board Connectors; Match Code: WR-WTB; Mount: Surface Mount; Operating Temperature Max: 85°C; Operating Temperature Min: -25°C; Packaging: Tape and Reel; Length: 7.5mm; Width: 6.47mm; Height: 3.7mm; Gender: Male; Number of Pins: 3; Number of Rows: 1; Orientation: Horizontal; Pitch: 1.5mm
footprint 648103131822
pins: 1, 2, 3

## 648104131822
designator P?  (value not drawn)
WR-WTB SMT Male Horizontal Shrouded Header, pitch 1.5mm, 4pins; Manufacturer: Wurth Elektronik; Contact Resistance: 20mΩ; Rated Current: 1A; Working Voltage: 50VAC; Withstanding Voltage: 500VAC; ComponentLink1Description: Website Link; ComponentLink1URL: https://www.we-online.com/redexpert/article/648104131822?ad; ComponentLink2Description: Datasheet Link; ComponentLink2URL: https://www.we-online.com/redexpert/spec/648104131822?ad; Manufacturer Part Number: 648104131822; Category: Wire-to-Board Connectors; Match Code: WR-WTB; Mount: Surface Mount; Operating Temperature Max: 85°C; Operating Temperature Min: -25°C; Packaging: Tape and Reel; Length: 9mm; Width: 6.47mm; Height: 3.7mm; Gender: Male; Number of Pins: 4; Number of Rows: 1; Orientation: Horizontal; Pitch: 1.5mm
footprint 648104131822
pins: 1, 2, 3, 4

## 648105131822
designator P?  (value not drawn)
WR-WTB SMT Male Horizontal Shrouded Header, pitch 1.5mm, 5pins; Manufacturer: Wurth Elektronik; Contact Resistance: 20mΩ; Rated Current: 1A; Working Voltage: 50VAC; Withstanding Voltage: 500VAC; ComponentLink1Description: Website Link; ComponentLink1URL: https://www.we-online.com/redexpert/article/648105131822?ad; ComponentLink2Description: Datasheet Link; ComponentLink2URL: https://www.we-online.com/redexpert/spec/648105131822?ad; Manufacturer Part Number: 648105131822; Category: Wire-to-Board Connectors; Match Code: WR-WTB; Mount: Surface Mount; Operating Temperature Max: 85°C; Operating Temperature Min: -25°C; Packaging: Tape and Reel; Length: 10.5mm; Width: 6.47mm; Height: 3.7mm; Gender: Male; Number of Pins: 5; Number of Rows: 1; Orientation: Horizontal; Pitch: 1.5mm
footprint 648105131822
pins: 1, 2, 3, 4, 5